# EAGLE library part TONE_POT_2GANG (library Amplifier_Parts)
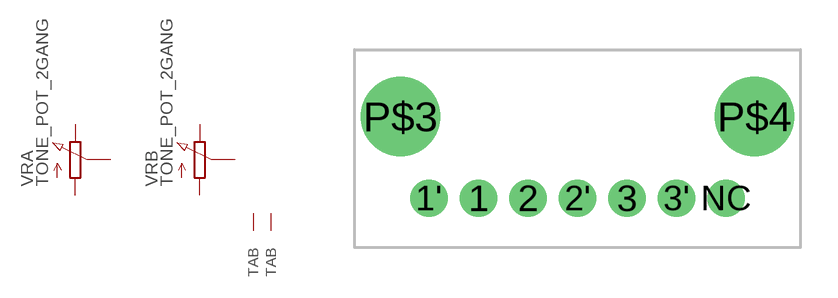
[diagram p0: symbol with the pads of TONE_POT_2GANG; footprint TONE_POT_2GANG]

Designator prefix VR; gates A=TONE_POT_2GANG B=TONE_POT_2GANG G$1=PIN G$2=PIN

## TONE_POT_2GANG  [TONE_POT_2GANG]
1  A:1_1  pas
1'  B:1_1  pas
2  A:1_2  pas
2'  B:1_2  pas
3  A:1_3  pas
3'  B:1_3  pas
P$3  G$1:TAB  pas
P$4  G$2:TAB  pas

## Footprint TONE_POT_2GANG (pad centres in mm)
drill 1: 1 -4,0; 1' -6,0; 2 -2,0; 2' 0,0; 3 2,0; 3' 4,0; NC 6,0
drill 2.2 pad 2.413: P$3 -7.15,3.3; P$4 7.15,3.3